# EAGLE library part AMPSEAL-35POS (library personal)
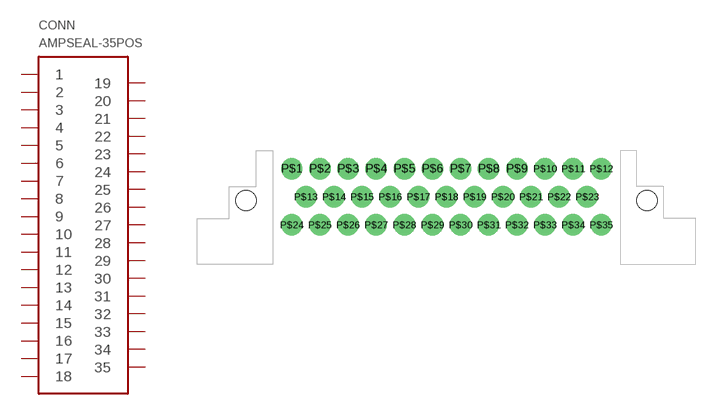
[diagram p3: symbol with the pads of AMPSEAL-35POS; footprint AMPSEAL-35POS]

Designator prefix CONN

## AMPSEAL-35POS  [AMPSEAL-35POS]
P$1  1  pas
P$2  2  pas
P$3  3  pas
P$4  4  pas
P$5  5  pas
P$6  6  pas
P$7  7  pas
P$8  8  pas
P$9  9  pas
P$10  10  pas
P$11  11  pas
P$12  12  pas
P$13  13  pas
P$14  14  pas
P$15  15  pas
P$16  16  pas
P$17  17  pas
P$18  18  pas
P$19  19  pas
P$20  20  pas
P$21  21  pas
P$22  22  pas
P$23  23  pas
P$24  24  pas
P$25  25  pas
P$26  26  pas
P$27  27  pas
P$28  28  pas
P$29  29  pas
P$30  30  pas
P$31  31  pas
P$32  32  pas
P$33  33  pas
P$34  34  pas
P$35  35  pas

## Footprint AMPSEAL-35POS (pad centres in mm)
drill 2.032: P$1 -22,4.5; P$2 -18,4.5; P$3 -14,4.5; P$4 -10,4.5; P$5 -6,4.5; P$6 -2,4.5; P$7 2,4.5; P$8 6,4.5; P$9 10,4.5; P$10 14,4.5; P$11 18,4.5; P$12 22,4.5; P$13 -20,0.5; P$14 -16,0.5; P$15 -12,0.5; P$16 -8,0.5; P$17 -4,0.5; P$18 0,0.5; P$19 4,0.5; P$20 8,0.5; P$21 12,0.5; P$22 16,0.5; P$23 20,0.5; P$24 -22,-3.5; P$25 -18,-3.5; P$26 -14,-3.5; P$27 -10,-3.5; P$28 -6,-3.5; P$29 -2,-3.5; P$30 2,-3.5; P$31 6,-3.5; P$32 10,-3.5; P$33 14,-3.5; P$34 18,-3.5; P$35 22,-3.5
hole 2.85 at -28.5,0
hole 2.85 at 28.5,0